# EAGLE library part DS1085L (library CEDTv75)
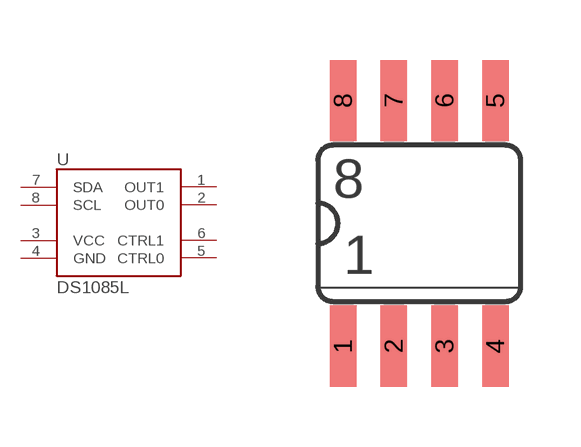
[diagram p63: symbol with the pads of SOIC08; footprint SOIC08]

Designator prefix U

## DS1085L  [SOIC08]
1  OUT1  pas
2  OUT0  pas
3  VCC  pas
4  GND  pas
5  CTRL0  pas
6  CTRL1  pas
7  SDA  pas
8  SCL  pas

## Footprint SOIC08 (pad centres in mm)
smd 0.66 x 2.032: 1 -1.905,-3.073; 2 -0.635,-3.073; 3 0.635,-3.073; 4 1.905,-3.073; 5 1.905,3.073; 6 0.635,3.073; 7 -0.635,3.073; 8 -1.905,3.073